# EAGLE library part AS5043 (library austriamicrosystems)
10-BIT Programmable 360° Magnetic Angle Encoder with Absolute SSI and Analog Outputs Source: www.austriamicrosystems.com .. AS5055_Datasheet_v1_1.pdf
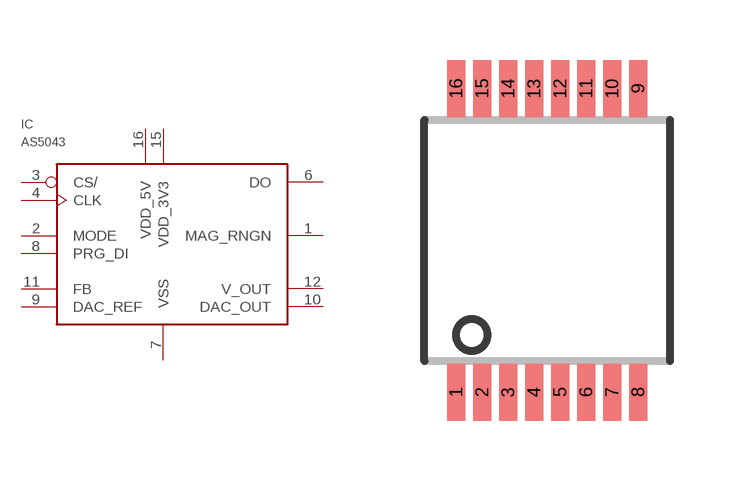
[diagram p3: symbol with the pads of SSOP16; footprint SSOP16]

Designator prefix IC

## AS5043  [SSOP16]
1  MAG_RNGN  out
2  MODE  in
3  CS/  in
4  CLK  in
6  DO  out
7  VSS  pwr
8  PRG_DI  in
9  DAC_REF  in
10  DAC_OUT  out
11  FB  in
12  V_OUT  out
15  VDD_3V3  pwr
16  VDD_5V  pwr

## Footprint SSOP16 (pad centres in mm)
Small Shrink Outline Package SSOP 16 (5.3mm x 6.2mm) Source: www.austriamicrosystems.com .. AS5040DataSheetRev12.pdf
smd 0.46 x 1.43: 1 -2.275,-3.795; 2 -1.625,-3.795; 3 -0.975,-3.795; 4 -0.325,-3.795; 5 0.325,-3.795; 6 0.975,-3.795; 7 1.625,-3.795; 8 2.275,-3.795; 9 2.275,3.795; 10 1.625,3.795; 11 0.975,3.795; 12 0.325,3.795; 13 -0.325,3.795; 14 -0.975,3.795; 15 -1.625,3.795; 16 -2.275,3.795